# Altium schematic symbol library Omron_B3F-4055.SchLib: 2 symbols
Pins are listed as number, name and electrical type; pins without a type are passive.

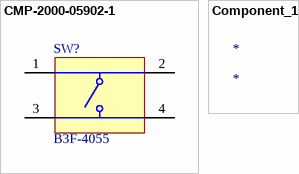
[diagram p0: symbols CMP-2000-05902-1 to Component_1]

## CMP-2000-05902-1
designator SW?, comment B3F-4055
Tactile Switch, 1 to 50 mA, 100 mOhm Max, 5 to 24 VDC, -25 to 70 degC, 4-Pin THD, RoHS, Bulk; Manufacturer: Omron; LCSCPartNo: C10861; Manufacturer Part Number: B3F-4055
footprint OMRON-B3F-4055_V (THD, 4-Leads, Body 12x12mm)
footprint OMRON-B3F-4055_AX (OMRON-B3F-4055)
pins: 1, 2, 3, 4

## Component_1
designator *